# Altium schematic symbol library SCH - OPAMP - 3PEAK LMV324B.SCHLIB: 1 symbol
Pins are listed as number, name and electrical type; pins without a type are passive.

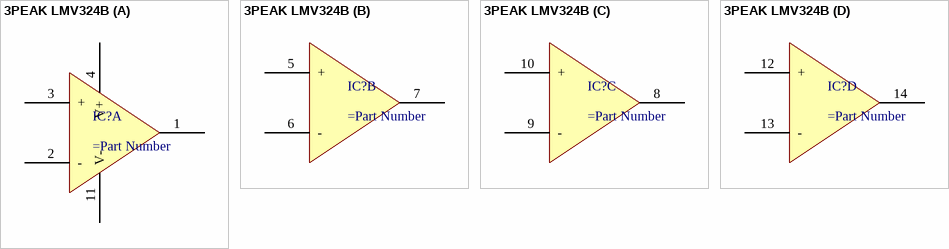
[diagram p0: symbol 3PEAK LMV324B]

## 3PEAK LMV324B
designator IC?
1MHz, 80μA, RRIO, Op Amps
part A pins: 1 OUT, 2 -, 3 +, 4 V+, 11 V-
part B pins: 5 +, 6 -, 7 OUT
part C pins: 8 OUT, 9 -, 10 +
part D pins: 12 +, 13 -, 14 OUT